# Altium schematic symbol library Mechanical_Connectors_Debug_GOST.SchLib: 3 symbols
Pins are listed as number, name and electrical type; pins without a type are passive.

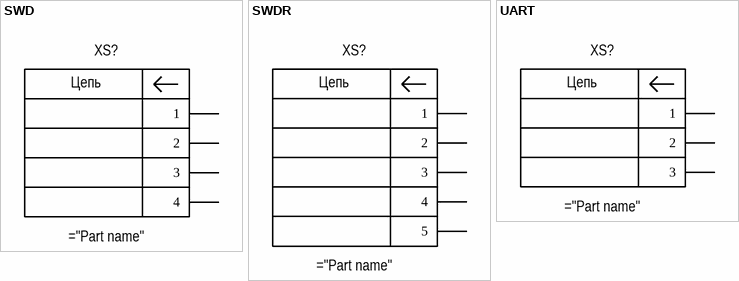
[diagram p0: symbols SWD to UART]

## SWD
designator XS?  (no BOM)
pins: 1, 2, 3, 4
text: Цепь

## SWDR
designator XS?  (no BOM)
pins: 1, 2, 3, 4, 5
text: Цепь

## UART
designator XS?  (no BOM)
pins: 1, 2, 3
text: Цепь